# Altium integrated library 33uf_50v Electrolytic cap.IntLib: 1 symbol
Pins are listed as number, name and electrical type; pins without a type are passive.

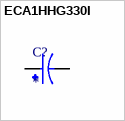
[diagram p0: symbol ECA1HHG330I]

## ECA1HHG330I
designator C?
CAP ALUM 33UF 20% 50V RADIAL; MF: Panasonic; MP: ECA1HHG330I; Value: *; Check_prices: https://www.snapeda.com/parts/ECA1HHG330I/Panasonic/view-part/?ref=eda; SnapEDA_Link: https://www.snapeda.com/parts/ECA1HHG330I/Panasonic/view-part/?ref=snap; Availability: In Stock; Package: RADIAL-2 Panasonic; Purchase-URL: https://pricing.snapeda.com/search/part/ECA1HHG330I/?ref=eda; Price: None
footprint CAPPRD250W50D500H1100
pins: N, P